# Altium schematic symbol library Cinch_30_CONN.Schlib: 1 symbol
Pins are listed as number, name and electrical type; pins without a type are passive.

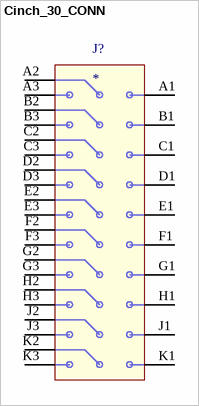
[diagram p0: symbol Cinch_30_CONN]

## Cinch_30_CONN
designator J?
pins: A1, A2, A3, B1, B2, B3, C1, C2, C3, D1, D2, D3, E1, E2, E3, F1, F2, F3, G1, G2, G3, H1, H2, H3, J1, J2, J3, K1, K2, K3